# Altium schematic symbol library 模块.SchLib: 1 symbol
Pins are listed as number, name and electrical type; pins without a type are passive.

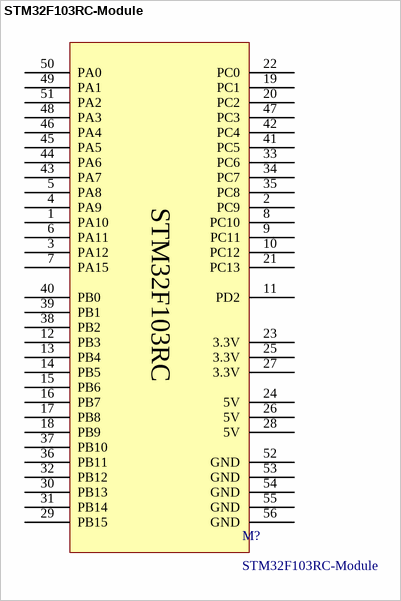
[diagram p0: symbol STM32F103RC-Module]

## STM32F103RC-Module
designator M?
footprint STM32F103RC
pins: 1 PA10, 2 PC9, 3 PA12, 4 PA9, 5 PA8, 6 PA11, 7 PA15, 8 PC10, 9 PC11, 10 PC12, 11 PD2, 12 PB3, 13 PB4, 14 PB5, 15 PB6, 16 PB7, 17 PB8, 18 PB9, 19 PC1, 20 PC2, 21 PC13, 22 PC0, 23 3.3V, 24 5V, 25 3.3V, 26 5V, 27 3.3V, 28 5V, 29 PB15, 30 PB13, 31 PB14, 32 PB12, 33 PC6, 34 PC7, 35 PC8, 36 PB11, 37 PB10, 38 PB2, 39 PB1, 40 PB0, 41 PC5, 42 PC4, 43 PA7, 44 PA6, 45 PA5, 46 PA4, 47 PC3, 48 PA3, 49 PA1, 50 PA0, 51 PA2, 52 GND, 53 GND, 54 GND, 55 GND, 56 GND
text: STM32F103RC